# Altium schematic symbol library Task with ESP32_1.SCHLIB: 29 symbols
Pins are listed as number, name and electrical type; pins without a type are passive.

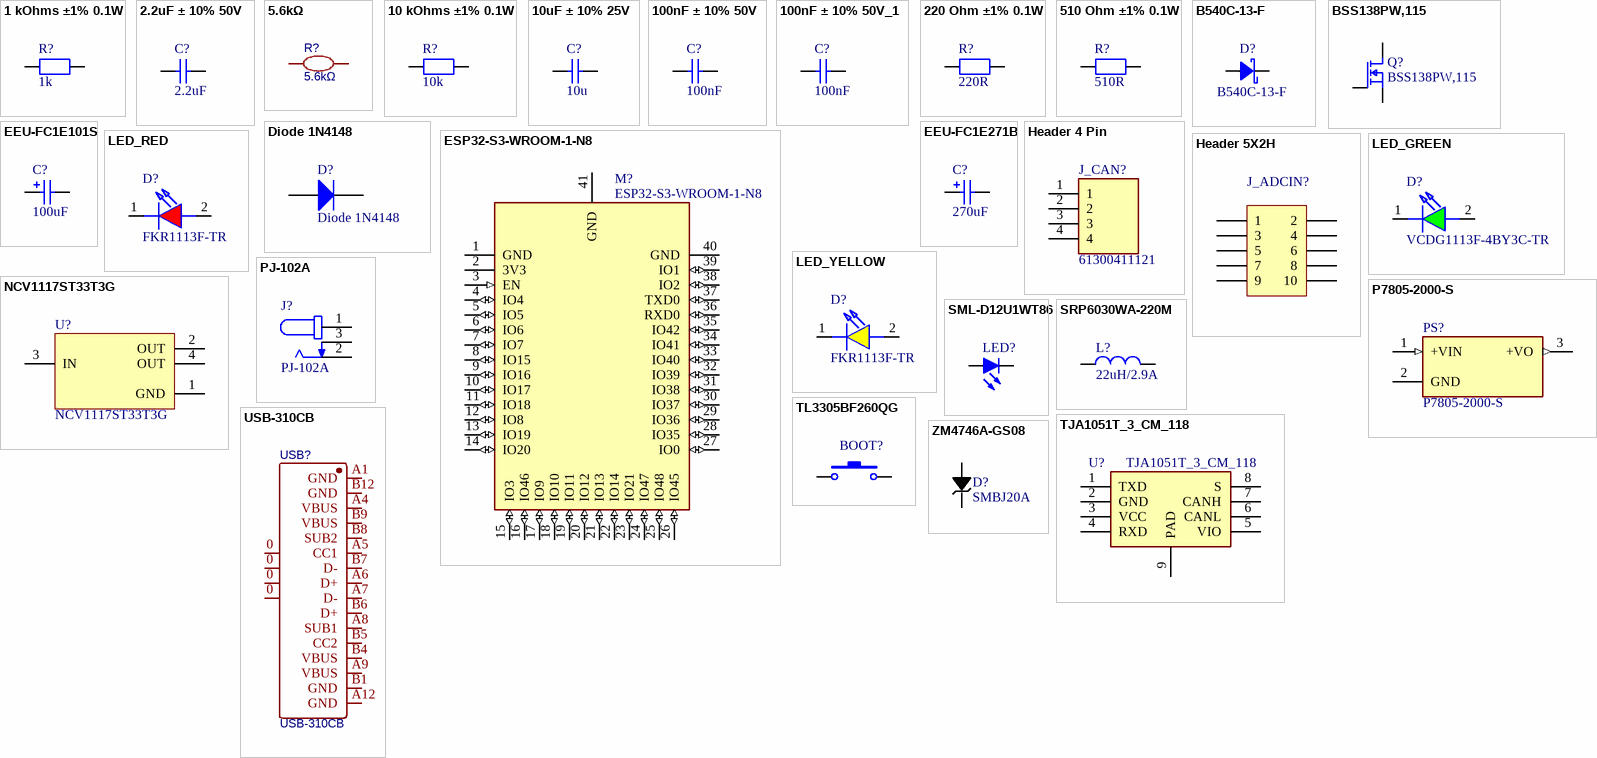
[diagram p0: symbols 1 kOhms ±1% 0.1W to ZM4746A-GS08]

## 1 kOhms ±1% 0.1W
designator R?, comment 1k
1 kOhms ±1% 0.1W; Manufacturer: Yageo; Manufacturer Part Number: RC0603FR-071KL; Value: 1k; Supplier: Mouser; Supplier Part Number: 603-RC0603FR-071KL; Price: 0.1
footprint R0603 (Footprint not found)
pins: 1, 2

## 2.2uF ± 10% 50V
designator C?, comment 2.2uF
2.2uF ± 10% 50V; Manufacturer: Yageo; Manufacturer Part Number: GRM188R61H225ME11J; Value: 2.2uF; Supplier: mouser; Supplier Part Number: 81-GRM188R61H225ME1J; Price: 0.3
footprint C0603 (Footprint not found)
pins: 1, 2

## 5.6kΩ
designator R?
Manufacturer: UNI-ROYAL(Uniroyal Elec); Manufacturer Part: NQ01WMJ0562TEE; Contributor: LCSC; nameAlias: Resistance; Supplier: LCSC; Supplier Part: C965305; spicePre: R; spiceSymbolName: NQ01WMJ0562TEE
footprint R0201
pins: 1, 2

## 10 kOhms ±1% 0.1W
designator R?, comment 10k
10 kOhms ±1% 0.1W; Manufacturer: Yageo; Manufacturer Part Number: RC0603FR-0710KL; Value: 10k; Supplier: Mouser; Supplier Part Number: 603-RC0603FR-0710KL; Price: 0.1
footprint R0603 (Footprint not found)
pins: 1, 2

## 10uF ± 10% 25V
designator C?, comment 10u
10uF ± 10% 25V; Manufacturer: Yageo; Manufacturer Part Number: CC1206KKX7R8BB106; Tolerance: +-10%; Type: X7R; Voltage (V): 25; Category: Capacitor; Value: 10u; Price: 0.44; Supplier: Mouser; Supplier Part Number: 603-CC126KKX7R8BB106
footprint C1206 (CAPACITOR SMD 1206)
pins: 1, 2

## 100nF ± 10% 50V
designator C?, comment 100nF
100nF ± 10% 50V; Manufacturer: Yageo; Manufacturer Part Number: CC0603KRX7R9BB104; Value: 100nF; Supplier: Mouser; Supplier Part Number: 603-CC603KRX7R9BB104; Price: 0.1
footprint C0603 (Footprint not found)
pins: 1, 2

## 100nF ± 10% 50V_1
designator C?, comment 100nF
100nF ± 10% 50V; Manufacturer: Yageo; Manufacturer Part Number: CS0603KRX7R9BB104; Value: 100nF; Supplier: mouser; Supplier Part Number: 603-CS0603KRX79BB104; Price: 0.1
footprint C0402
footprint C0603 (CAPACITOR SMD 0603)
pins: 1, 2

## 220 Ohm ±1% 0.1W
designator R?, comment 220R
220 Ohm ±1% 0.1W; Manufacturer: Yageo; Manufacturer Part Number: RC0603FR-07220RL; Value: 220R; Supplier: Mouser; Supplier Part Number: 603-RC0603FR-07220RL; Price: 0.1
footprint R0603 (Footprint not found)
pins: 1, 2

## 510 Ohm ±1% 0.1W
designator R?, comment 510R
510 Ohm ±1% 0.1W; Manufacturer: Yageo; Manufacturer Part Number: RC0603FR-07510RL; Value: 510R; Supplier: Mouser; Supplier Part Number: 603-RC0603FR-07510RL; Price: 0.1
footprint R0603 (Footprint not found)
pins: 1, 2

## B540C-13-F
designator D?
Schottky Diodes & Rectifiers 40V 5A; Value: B540C-13-F; Manufacturer Part Number: B540C-13-F; Manufacturer: Diodes; Supplier: Mouser; Supplier Part Number: 621-B540C-F; Price: 0.5
footprint DO-214AB2
pins: A, C

## BSS138PW,115
designator Q?
MOSFET, N CH, 60V, 0.2A; Manufacturer: Nexperia; Value: BSS138PW,115; Manufacturer Part Number: BSS138PW,115; Supplier: Mouser; Supplier Part Number: 771-BSS138PW115; Price: 0.3
footprint SOT-23s
footprint SOT323-3 (Footprint not found)
footprint 0402
pins: 1 G, 2 S, 3 D

## Diode 1N4148
designator D?
High Conductance Fast Diode; Published: 8-Jun-2000; LatestRevisionDate: 17-Jul-2002; LatestRevisionNote: Re-released for DXP Platform.; DatasheetVersion: 1997; PackageReference: DO-35; Publisher: Altium Limited; PackageDescription: Diode, Axial; Body 3.8 x 1.9 mm (LxDia. max), Lead Dia. 0.53 mm (max); Code_JEDEC: DO-204-AH; ComponentLink1Description: Manufacturer Link; ComponentLink1URL: http://www.fairchildsemi.com/; ComponentLink2Description: Datasheet; ComponentLink2URL: http://www.fairchildsemi.com/ds/1N%2F1N4148.pdf
footprint DO-35 (Diode, Axial; Body 3.8 x 1.9 mm (LxDia. max), Lead Dia. 0.53 mm (max))
simulation model 1N4148 (DIODE)
signal-integrity model 1N4148
pins: 1 A, 2 K

## EEU-FC1E101S
designator C?, comment 100uF
CAP ALUM 100UF 20% 25V SMD; Manufacturer Part Number: EEU-FC1E101S; Manufacturer: Panasonic; Value: 100uF; Supplier: Mouser; Supplier Part Number: 667-EEU-FC1E101S; Price: 0.4
footprint CAP_EEUFC1E101S (Footprint not found)
pins: 1, 2
1 alternate drawing of the same symbol

## EEU-FC1E271B
designator C?, comment 270uF
CAP ALUM 270UF 20% 25V SMD; Manufacturer Part Number: EEU-FC1E271B; Manufacturer: Panasonic; Value: 270uF; Supplier: Mouser; Supplier Part Number: 667-EEU-FC1E271B; Price: 0.7
footprint CAP_EEU-FK1E271B
pins: 1, 2
1 alternate drawing of the same symbol

## ESP32-S3-WROOM-1-N8
designator M?
Bluetooth, WiFi 802.11b/g/n, Bluetooth v5.0 Transceiver Module 2.4GHz PCB Trace Surface Mount; Manufacturer: Espressif Systems; Price: 3.45; Value: ESP32-S3-WROOM-1-N8; Supplier Part Number: 356-ESP32-S3WROOM1N8; Manufacturer Part Number: ESP32-S3-WROOM-1-N8; Supplier: Mouser
footprint ESP32-S3-WROOM-1-N8 (Footprint not found)
pins: 1 GND (power), 2 3V3 (power), 3 EN (in), 4 IO4 (io), 5 IO5 (io), 6 IO6 (io), 7 IO7 (io), 8 IO15 (io), 9 IO16 (io), 10 IO17 (io), 11 IO18 (io), 12 IO8 (io), 13 IO19 (io), 14 IO20 (io), 15 IO3 (io), 16 IO46 (io), 17 IO9 (io), 18 IO10 (io), 19 IO11 (io), 20 IO12 (io), 21 IO13 (io), 22 IO14 (io), 23 IO21 (io), 24 IO47 (io), 25 IO48 (io), 26 IO45 (io), 27 IO0 (io), 28 IO35 (io), 29 IO36 (io), 30 IO37 (io), 31 IO38 (io), 32 IO39 (io), 33 IO40 (io), 34 IO41 (io), 35 IO42 (io), 36 RXD0 (io), 37 TXD0 (io), 38 IO2 (io), 39 IO1 (io), 40 GND (power), 41 GND (power)

## Header 4 Pin
designator J_CAN?, comment 61300411121
Headers & Wire Housings WR-PHD 2.54mm Hdr 4P Single Str Gold; Manufacturer: Wurth Electronic; Supplier Part Number: 710-61300411121; Supplier: Mouser; Manufacturer Part Number: 61300411121; Price: 0.19; Value: 61300411121
footprint 61300411121
pins: 1, 2, 3, 4

## Header 5X2H
designator J_ADCIN?
Header, 5-Pin, Dual row, Right Angle; LatestRevisionDate: 17-Jul-2002; LatestRevisionNote: Re-released for DXP Platform.; Publisher: Altium Limited
footprint HDR2X5H (Connector; Header; 5x2 Position; Right Angle)
signal-integrity model Connector
pins: 1, 2, 3, 4, 5, 6, 7, 8, 9, 10

## LED_GREEN
designator D?, comment VCDG1113F-4BY3C-TR
R/A LED; Manufacturer: Stanley Electric; Value: Green; Supplier Part Number: 327-VCDG1113F4BY3CTR; Supplier: Mouser; Manufacturer Part Number: VCDG1113F-4BY3C-TR; Price: 0.5
footprint VCDG1113F4BY3CTR
pins: 1 K, 2 A

## LED_RED
designator D?, comment FKR1113F-TR
R/A LED; Manufacturer: Stanley Electric; Value: Red; Supplier Part Number: 327-FKR1113FTR; Supplier: Mouser; Manufacturer Part Number: FKR1113F-TR; Price: 0.5
footprint VCDG1113F4BY3CTR
pins: 1 K, 2 A

## LED_YELLOW
designator D?, comment FKR1113F-TR
R/A LED; Manufacturer: Stanley Electric; Manufacturer Part Number: FKY1113F-TR; Value: Yellow; Supplier Part Number: 327-FKY1113FTR; Supplier: Mouser; Price: 0.5
footprint VCDG1113F4BY3CTR
pins: 1 K, 2 A

## NCV1117ST33T3G
designator U?
LDO Voltage Regulators 3.3V 1.0A Automotive; Manufacturer: onsemi; Price: 0.7; Manufacturer Part Number: NCV1117ST33T3G; Supplier Part Number: 863-NCV1117ST33T3G; Value: NCV1117ST33T3G; Supplier: Mouser
footprint SOT223-3
pins: 1 GND (power), 2 OUT (power), 3 IN (power), 4 OUT (power)

## P7805-2000-S
designator PS?
2 A Output Current, 6~36 Vdc Input, SIP, Non-Isolated, Dc-Dc Converter; Manufacturer: CUI Inc.; Price: 6.5; Supplier: Mouser; Value: P7805-2000-S; Supplier Part Number: 490-P7805-2000-S; Manufacturer Part Number: P7805-2000-S
footprint CONV_P7805-2000-S
pins: 1 +VIN (in), 2 GND (power), 3 +VO (out)

## PJ-102A
designator J?
CONN PWR JACK 2X5.5MM SOLDER; Manufacturer: CUI Devices; Manufacturer Part Number: PJ-102A; Value: PJ-102A; Supplier: Mouser; Supplier Part Number: 490-PJ-102A; Price: 0.8
footprint CUI_PJ-102A (Footprint not found)
pins: 1, 2, 3

## SML-D12U1WT86
designator LED?  (value not drawn)
Typical RED GaAs LED; Manufacturer: Rohm Semiconductor; Supplier: Mouser; Supplier Part Number: 755-SML-D12U1WT86; Manufacturer Part Number: SML-D12U1WT86; Value: SML-D12U1WT86; Price: 0.2
footprint LED0603 (Footprint not found)
footprint LED0603
pins: A, C

## SRP6030WA-220M
designator L?, comment 22uH/2.9A
Power Inductors - SMD Ind,7.1x6.6x2.8mm,22uH+/-20%,2.9A,shd; Manufacturer Part Number: SRP6030WA-220M; Manufacturer: Bourns; Value: 22uH/2.9A; Supplier: Mouser; Supplier Part Number: 652-SRP6030WA-220M; Price: 1.2
footprint IND_SRP6030 (Footprint not found)
footprint INDC1608L (Chip Inductor, Body 1.6x0.8mm, IPC High Density)
footprint 2029 (Chip Inductor, Body 2.0x1.2mm, IPC High Density)
footprint 0603 (Chip Inductor, Body 0.6x0.3mm, IPC High Density)
footprint INDC3216 (Chip Inductor, Body 3.2x1.6mm, IPC High Density)
footprint INDC4532 (Chip Inductor, Body 4.5x3.2mm, IPC High Density)
pins: 1, 2

## TJA1051T_3_CM_118
designator U?
CAN Interface IC BL Advanced Automotive Analog; Manufacturer: NXP Semiconductors; Manufacturer Part Number: TJA1051T/3/CM,118; Value: TJA1051T/3/CM,118; Supplier Part Number: 771-TJA1051T/3CM118; Supplier: Mouser; Price: 1.6
footprint SOIC127P600X175-8N
pins: 1 TXD, 2 GND, 3 VCC (power), 4 RXD, 5 VIO, 6 CANL, 7 CANH, 8 S, 9 PAD

## TL3305BF260QG
designator BOOT?  (value not drawn)
SWITCH TACTILE SPST-NO 0.05A 12V; Manufacturer: E-Switch; Value: TL3305BF260QG; Manufacturer Part Number: TL3305BF260QG; Supplier: Mouser; Supplier Part Number: 612-TL3305BF260QG; Price: 0.25
footprint SW_TL3305BF260QG (Footprint not found)
pins: 1, 2

## USB-310CB
designator USB?
Manufacturer: HOOYA; Contributor: LCSC; Supplier: LCSC; Supplier Part: C309373; Manufacturer Part: USB-310CB; spicePre: U; spiceSymbolName: USB-310CB
footprint USB-C-SMD_20P-P0.50-L6.5-W11.2
pins: 0, 0, 0, 0, A1 GND, A4 VBUS, A5 CC1, A6 D+, A7 D-, A8 SUB1, A9 VBUS, A12 GND, B1 GND, B4 VBUS, B5 CC2, B6 D+, B7 D-, B8 SUB2, B9 VBUS, B12 GND

## ZM4746A-GS08
designator D?, comment SMBJ20A
ESD Suppressors / TVS Diodes 600W, 23.4V, 5%, Unidirectional, TVS; Manufacturer: Littelfuse; Value: SMBJ20A; Manufacturer Part Number: SMBJ20A; Supplier: Mouser; Supplier Part Number: 576-SMBJ20A; Price: 0.35
footprint DO-214AA2
pins: A, C